# EAGLE library part RN4871 (library jonsowman)
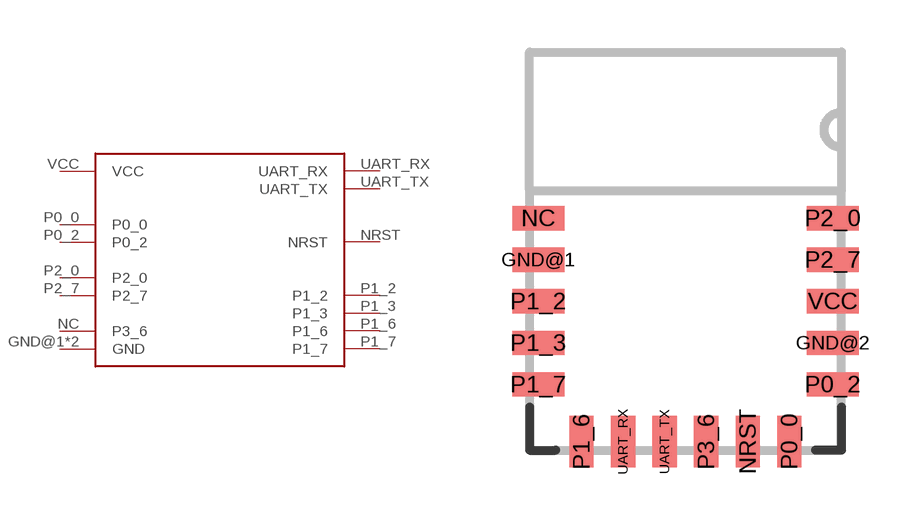
[diagram p27: symbol with the pads of RN4871; footprint RN4871]

Designator prefix -

## RN4871  [RN4871]
GND@1  GND
GND@2  GND
NC  P3_6
NRST  NRST
P0_0  P0_0
P0_2  P0_2
P1_2  P1_2
P1_3  P1_3
P1_6  P1_6
P1_7  P1_7
P2_0  P2_0
P2_7  P2_7
UART_RX  UART_RX
UART_TX  UART_TX
VCC  VCC

## Footprint RN4871 (pad centres in mm)
smd 1.5 x 0.7: GND@1 0.25,5.5; GND@2 8.75,3.1; NC 0.25,6.7; P0_2 8.75,1.9; P1_2 0.25,4.3; P1_3 0.25,3.1; P1_7 0.25,1.9; P2_0 8.75,6.7; P2_7 8.75,5.5; VCC 8.75,4.3
smd 0.7 x 1.5: NRST 6.3,0.25; P0_0 7.5,0.25; P1_6 1.5,0.25; P3_6 5.1,0.25; UART_RX 2.7,0.25; UART_TX 3.9,0.25